# EAGLE library part F-2X04- (library con-headers-jp)
FEMALE HEADER
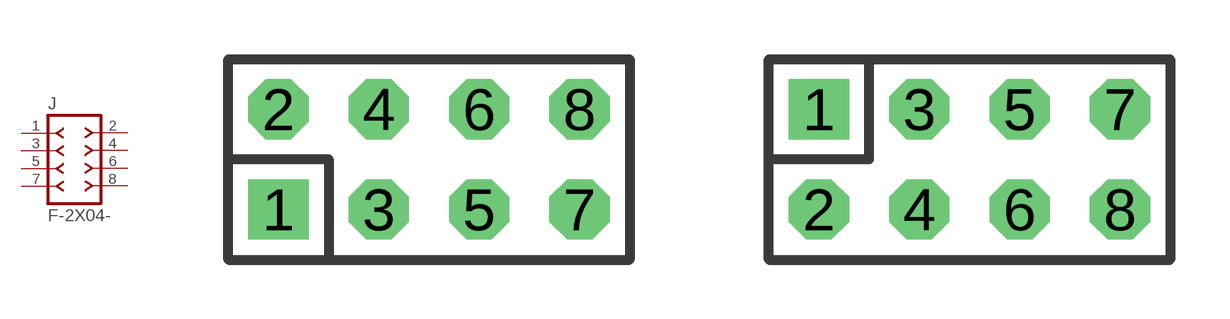
[diagram p33: symbol with the pads of DIL-100-2X04; footprints DIL-100-2X04, DIL-100-2X04_M]

Designator prefix J

## F-2X04-DIL-100  [DIL-100-2X04]
1  1  pas
2  2  pas
3  3  pas
4  4  pas
5  5  pas
6  6  pas
7  7  pas
8  8  pas

## F-2X04-DIL-100_M  [DIL-100-2X04_M]
Pads as for DIL-100-2X04

## F-2X04-DIL-2MM  [DIL-2MM-2X04]
Pads as for DIL-100-2X04

## F-2X04-DIL-2MM_M  [DIL-2MM-2X04_M]
Pads as for DIL-100-2X04

## F-2X04-79107  [79107-08]
Pads as for DIL-100-2X04

## F-2X04-79107_M  [79107-08_M]
Pads as for DIL-100-2X04

## Footprint DIL-100-2X04 (pad centres in mm)
PIN HEADER - 0.1"
drill 1.016 square: 1 -3.81,-1.27
drill 1.016 octagon: 2 -3.81,1.27; 3 -1.27,-1.27; 4 -1.27,1.27; 5 1.27,-1.27; 6 1.27,1.27; 7 3.81,-1.27; 8 3.81,1.27

## Footprint DIL-100-2X04_M (pad centres in mm)
PIN HEADER - MIRRORED 0.1"
drill 1.016 square: 1 -3.81,1.27
drill 1.016 octagon: 2 -3.81,-1.27; 3 -1.27,1.27; 4 -1.27,-1.27; 5 1.27,1.27; 6 1.27,-1.27; 7 3.81,1.27; 8 3.81,-1.27

## Footprint DIL-2MM-2X04 (pad centres in mm)
PIN HEADER - 2MM"
drill 0.711 square: 1 -3,-1
drill 0.711 round: 2 -3,1; 3 -1,-1; 4 -1,1; 5 1,-1; 6 1,1; 7 3,-1; 8 3,1

## Footprint DIL-2MM-2X04_M (pad centres in mm)
PIN HEADER - MIRRORED 2MM
drill 0.711 square: 1 -3,1
drill 0.711 round: 2 -3,-1; 3 -1,1; 4 -1,-1; 5 1,1; 6 1,-1; 7 3,1; 8 3,-1

## Footprint 79107-08 (pad centres in mm)
Molex Board-To-Board Receptacal 2.00mm (.079") Pitch Milli-Grid Header, Vertical, Through-Hole Mates with: 87759, 87762, 87758, 87760
drill 0.711 square: 1 -3,-1
drill 0.711 round: 2 -3,1; 3 -1,-1; 4 -1,1; 5 1,-1; 6 1,1; 7 3,-1; 8 3,1

## Footprint 79107-08_M (pad centres in mm)
Molex Board-To-Board Receptacal - MIRRORED 2.00mm (.079") Pitch Milli-Grid Header, Vertical, Through-Hole Mates with: 87759, 87762, 87758, 87760
drill 0.711 square: 1 -3,1
drill 0.711 round: 2 -3,-1; 3 -1,1; 4 -1,-1; 5 1,1; 6 1,-1; 7 3,1; 8 3,-1